# EAGLE library part LT1635 (library wheat)
LT1635
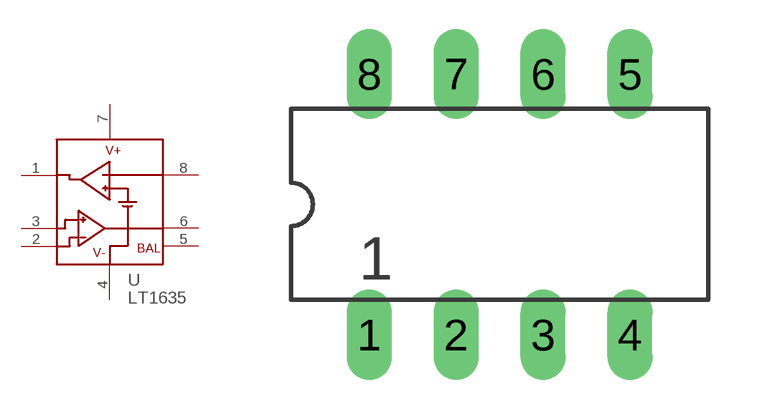
[diagram p135: symbol with the pads of DIP8; footprint DIP8]

Designator prefix U

## LT1635CN8  [DIP8]
1  REFO  out
2  IN-  in
3  IN+  in
4  V-  pas
5  BAL
6  OUT  out
7  V+  pas
8  REFFB  in

## Footprint DIP8 (pad centres in mm)
DIP8 .300 centers
drill 0.813 long: 1 0,0; 2 2.54,0; 3 5.08,0; 4 7.62,0; 5 7.62,7.62; 6 5.08,7.62; 7 2.54,7.62; 8 0,7.62